# Altium footprint library SOT223Footprint.PcbLib: 1 footprints
Each footprint in its own frame and in the unit in brackets; x right, y up, seen from the top. Pads: shape width x height; smd on the part's side, far side on the other; paste and mask are expansions set on the pad; w line width, h text height; cw(c..) or ccw(c..) is an arc to the next point about the centre after c.
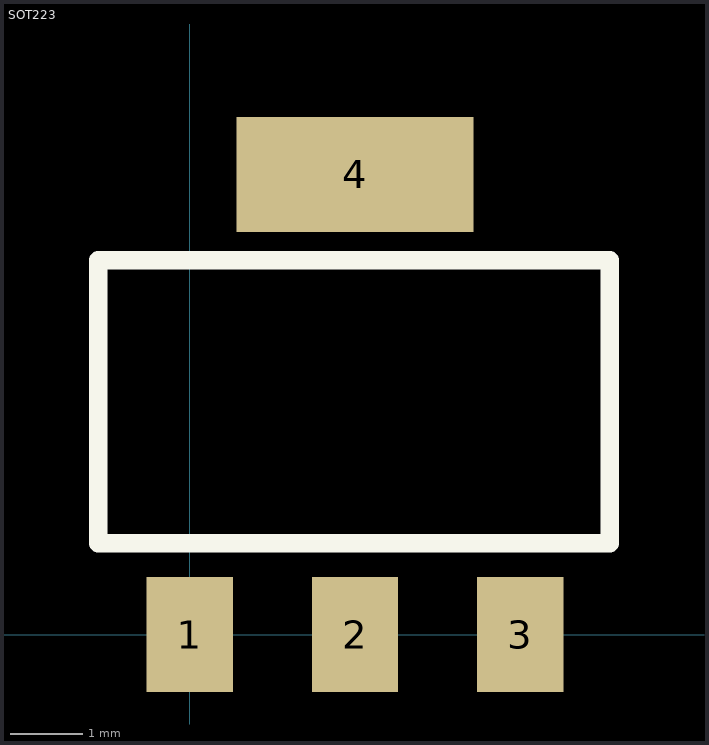
[diagram p0: the footprint, top view; thin cyan lines are the x and y axes]

## SOT223 [mm]
pads (4):
  rect 1.2x1.6 smd: 1(0,0) 2(2.3,0) 3(4.6,0)
  rect 3.3x1.6 smd: 4(2.3,6.4)
Top Overlay:
  lines w0.254: -1.27,1.27 -1.27,5.207 5.842,5.207 5.842,1.27 -1.27,1.27